# Altium schematic symbol library H48C.SCHLIB: 1 symbol
Pins are listed as number, name and electrical type; pins without a type are passive.

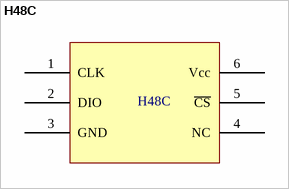
[diagram p0: symbol H48C]

## H48C
designator H48C, comment Hitachi H48C 3Axis Accelerometer  (value not drawn)
3 Axis Accelerometer
pins: 1 CLK, 2 DIO, 3 GND, 4 NC, 5 ~{CS}, 6 Vcc